# EAGLE library part FH52E-60S-0.5SH (library CONNECTORs)
60 Position FFC, FPC Connector Contacts, Bottom 0.020" (0.50mm) Surface Mount, Right Angle
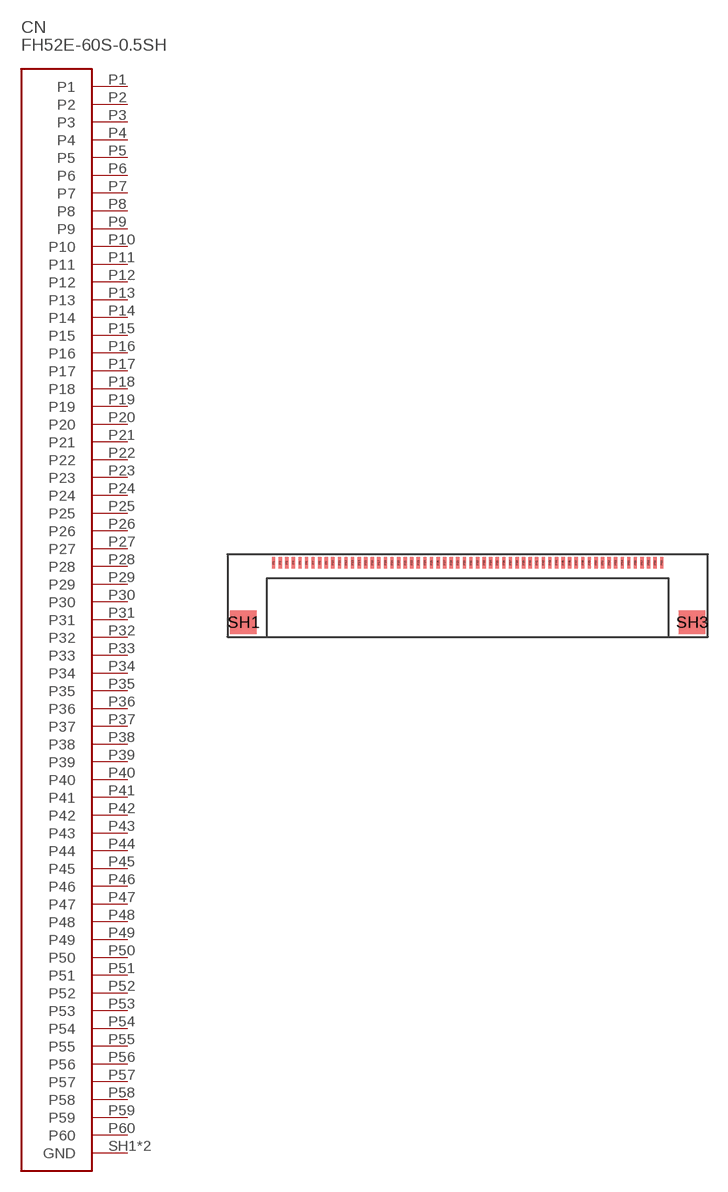
[diagram p70: symbol with the pads of FH52E-60S-0.5SH; footprint FH52E-60S-0.5SH]

Designator prefix CN

## FH52E-60S-0.5SH (DIGIKEY: H125289CT-ND; HEIGHT: 2; PRICE_PER: 4.41; VALUE: FH52E-60S-0.5SH)  [FH52E-60S-0.5SH]
P1  P1
P2  P2
P3  P3
P4  P4
P5  P5
P6  P6
P7  P7
P8  P8
P9  P9
P10  P10
P11  P11
P12  P12
P13  P13
P14  P14
P15  P15
P16  P16
P17  P17
P18  P18
P19  P19
P20  P20
P21  P21
P22  P22
P23  P23
P24  P24
P25  P25
P26  P26
P27  P27
P28  P28
P29  P29
P30  P30
P31  P31
P32  P32
P33  P33
P34  P34
P35  P35
P36  P36
P37  P37
P38  P38
P39  P39
P40  P40
P41  P41
P42  P42
P43  P43
P44  P44
P45  P45
P46  P46
P47  P47
P48  P48
P49  P49
P50  P50
P51  P51
P52  P52
P53  P53
P54  P54
P55  P55
P56  P56
P57  P57
P58  P58
P59  P59
P60  P60
SH1  GND
SH3  GND

## Footprint FH52E-60S-0.5SH (pad centres in mm)
smd 0.25 x 0.85: P1 -14.75,2.5; P2 -14.25,2.5; P3 -13.75,2.5; P4 -13.25,2.5; P5 -12.75,2.5; P6 -12.25,2.5; P7 -11.75,2.5; P8 -11.25,2.5; P9 -10.75,2.5; P10 -10.25,2.5; P11 -9.75,2.5; P12 -9.25,2.5; P13 -8.75,2.5; P14 -8.25,2.5; P15 -7.75,2.5; P16 -7.25,2.5; P17 -6.75,2.5; P18 -6.25,2.5; P19 -5.75,2.5; P20 -5.25,2.5; P21 -4.75,2.5; P22 -4.25,2.5; P23 -3.75,2.5; P24 -3.25,2.5; P25 -2.75,2.5; P26 -2.25,2.5; P27 -1.75,2.5; P28 -1.25,2.5; P29 -0.75,2.5; P30 -0.25,2.5; P31 0.25,2.5; P32 0.75,2.5; P33 1.25,2.5; P34 1.75,2.5; P35 2.25,2.5; P36 2.75,2.5; P37 3.25,2.5; P38 3.75,2.5; P39 4.25,2.5; P40 4.75,2.5; P41 5.25,2.5; P42 5.75,2.5; P43 6.25,2.5; P44 6.75,2.5; P45 7.25,2.5; P46 7.75,2.5; P47 8.25,2.5; P48 8.75,2.5; P49 9.25,2.5; P50 9.75,2.5; P51 10.25,2.5; P52 10.75,2.5; P53 11.25,2.5; P54 11.75,2.5; P55 12.25,2.5; P56 12.75,2.5; P57 13.25,2.5; P58 13.75,2.5; P59 14.25,2.5; P60 14.75,2.5
smd 2 x 1.8: SH1 -17.05,-2.025; SH3 17.05,-2.025